# Altium schematic symbol library CONN_TERMBLOCK.SchLib: 7 symbols
Pins are listed as number, name and electrical type; pins without a type are passive.

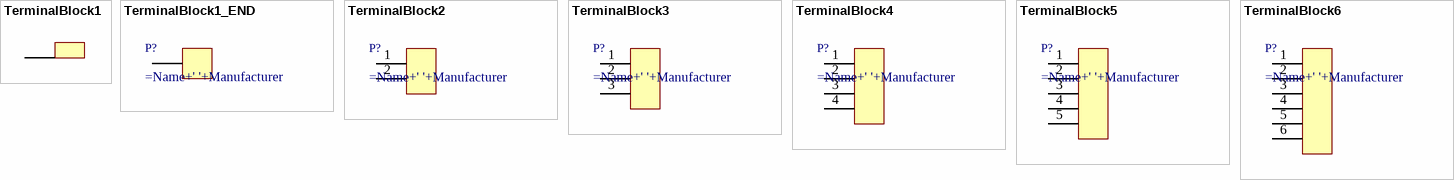
[diagram p0: symbols TerminalBlock1 to TerminalBlock6]

## TerminalBlock1
designator BLKDES?  (no BOM)
Manufacturer: Dinkle; HelpURL: https://static.chipdip.ru/lib/874/DOC000874642.pdf; Supplier: https://www.chipdip.ru/product/ech381v-05p
footprint DG142R-5.08_BLK
footprint DG141V-2.54_BLK
pins: 1

## TerminalBlock1_END
designator P?
Manufacturer: Dinkle; HelpURL: https://static.chipdip.ru/lib/874/DOC000874642.pdf; Supplier: https://www.chipdip.ru/product/ech381v-05p
footprint DG142R-5.08-END
footprint DG141V-2.54_END
pins: 1

## TerminalBlock2
designator P?
Manufacturer: Dinkle; HelpURL: https://static.chipdip.ru/lib/874/DOC000874642.pdf; Supplier: https://www.chipdip.ru/product/ech381v-05p
footprint DG142R-5.08-2
footprint DG301-5.0-2P
footprint 2EDGRM-5.0-02P
pins: 1, 2

## TerminalBlock3
designator P?
Manufacturer: Dinkle; HelpURL: https://static.chipdip.ru/lib/874/DOC000874642.pdf; Supplier: https://www.chipdip.ru/product/ech381v-05p
footprint DG126-5.0
footprint DG301-5.0-3P
footprint 5EHDR-5.0-03P
pins: 1, 2, 3

## TerminalBlock4
designator P?
Manufacturer: Dinkle; HelpURL: https://static.chipdip.ru/lib/874/DOC000874642.pdf; Supplier: https://www.chipdip.ru/product/ech381v-05p
footprint DG126-5.0
pins: 1, 2, 3, 4

## TerminalBlock5
designator P?
Manufacturer: Dinkle; HelpURL: https://static.chipdip.ru/lib/874/DOC000874642.pdf; Supplier: https://www.chipdip.ru/product/ech381v-05p
footprint ECH381V-05P
pins: 1, 2, 3, 4, 5

## TerminalBlock6
designator P?
Manufacturer: Dinkle; HelpURL: https://static.chipdip.ru/lib/874/DOC000874642.pdf; Supplier: https://www.chipdip.ru/product/ech381v-05p
footprint ECH381V-05P
pins: 1, 2, 3, 4, 5, 6